# Altium schematic symbol library EMG_DRL_Controlled.SchLib: 231 symbols (part 2 of 4)
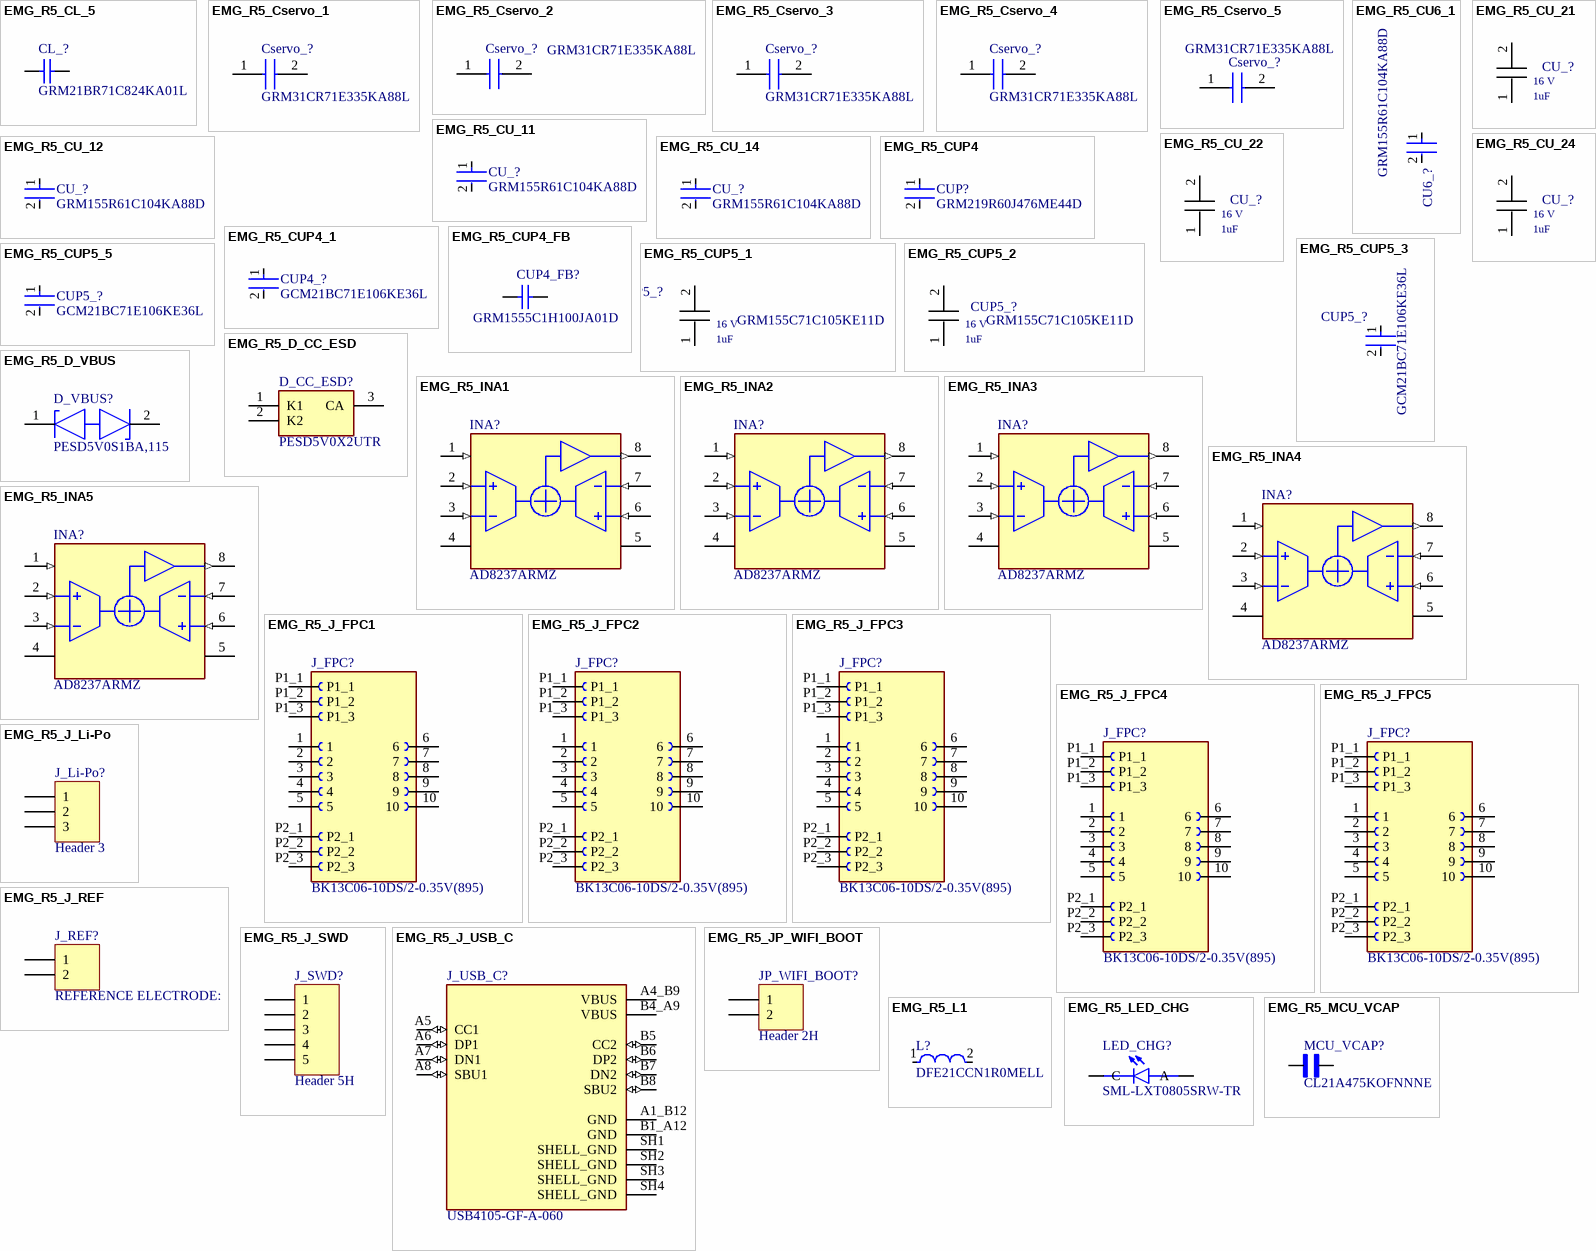
[diagram p6: symbols EMG_R5_CL_5 to EMG_R5_MCU_VCAP]

## EMG_R5_Cservo_3
designator Cservo_?, comment GRM31CR71E335KA88L
Capacitor; Manufacturer_Name: Murata Electronics; Manufacturer: Murata; Controlled Revision: R5 2026-09-16; project-local frozen symbol/footprint; Capacitance: 3.3 uF; Voltage Rating: 25 V; Dielectric: X7R; Tolerance: +/-10%; Datasheet Link: https://search.murata.co.jp/Ceramy/image/img/A01X/G101/ENG/GRM31CR71E335KA88-01.pdf; Height: 1.6 +/-0.2 mm; Manufacturer_Part_Number: GRM31CR71E335KA88L; Mouser Part Number: 81-GRM31CR71E335KA8L; Mouser Price/Stock: https://www.mouser.co.uk/ProductDetail/Murata-Electronics/GRM31CR71E335KA88L?qs=O9nxk9bDVAjJxWOahKXrZA%3D%3D; Arrow Part Number: GRM31CR71E335KA88L; Arrow Price/Stock: https://www.arrow.com/en/products/grm31cr71e335ka88l/murata-manufacturing?region=europe; Manufacturer Part Number: GRM31CR71E335KA88L; Package: 1206 / 3216 metric
footprint GRM31x
pins: 1, 2

## EMG_R5_Cservo_4
designator Cservo_?, comment GRM31CR71E335KA88L
Capacitor; Manufacturer_Name: Murata Electronics; Manufacturer: Murata; Controlled Revision: R5 2026-09-16; project-local frozen symbol/footprint; Capacitance: 3.3 uF; Voltage Rating: 25 V; Dielectric: X7R; Tolerance: +/-10%; Datasheet Link: https://search.murata.co.jp/Ceramy/image/img/A01X/G101/ENG/GRM31CR71E335KA88-01.pdf; Height: 1.6 +/-0.2 mm; Manufacturer_Part_Number: GRM31CR71E335KA88L; Mouser Part Number: 81-GRM31CR71E335KA8L; Mouser Price/Stock: https://www.mouser.co.uk/ProductDetail/Murata-Electronics/GRM31CR71E335KA88L?qs=O9nxk9bDVAjJxWOahKXrZA%3D%3D; Arrow Part Number: GRM31CR71E335KA88L; Arrow Price/Stock: https://www.arrow.com/en/products/grm31cr71e335ka88l/murata-manufacturing?region=europe; Manufacturer Part Number: GRM31CR71E335KA88L; Package: 1206 / 3216 metric
footprint GRM31x
pins: 1, 2

## EMG_R5_Cservo_5
designator Cservo_?, comment GRM31CR71E335KA88L
Capacitor; Manufacturer_Name: Murata Electronics; Manufacturer: Murata; Controlled Revision: R5 2026-09-16; project-local frozen symbol/footprint; Capacitance: 3.3 uF; Voltage Rating: 25 V; Dielectric: X7R; Tolerance: +/-10%; Datasheet Link: https://search.murata.co.jp/Ceramy/image/img/A01X/G101/ENG/GRM31CR71E335KA88-01.pdf; Height: 1.6 +/-0.2 mm; Manufacturer_Part_Number: GRM31CR71E335KA88L; Mouser Part Number: 81-GRM31CR71E335KA8L; Mouser Price/Stock: https://www.mouser.co.uk/ProductDetail/Murata-Electronics/GRM31CR71E335KA88L?qs=O9nxk9bDVAjJxWOahKXrZA%3D%3D; Arrow Part Number: GRM31CR71E335KA88L; Arrow Price/Stock: https://www.arrow.com/en/products/grm31cr71e335ka88l/murata-manufacturing?region=europe; Manufacturer Part Number: GRM31CR71E335KA88L; Package: 1206 / 3216 metric
footprint GRM31x
pins: 1, 2

## EMG_R5_CU6_1
designator CU6_?, comment GRM155R61C104KA88D
CAP CER 0.1UF 16V X5R 0402; Tolerance: 10%; Capacitance: 100nF; Controlled Revision: R5 2026-09-16; project-local frozen symbol/footprint; Size: 0.5mm; Case Code (Imperial): 0402; Voltage: 16V; REACH SVHC: No SVHC; Packaging: Tape and Reel; Case/Package: 0402; Package Quantity: 1; Max Operating Temperature: 85°C; Voltage Rating (DC): 16V; Min Operating Temperature: -55°C; Construction: Flat; Mount: Surface Mount; Voltage Rating: 16V; Thickness: 0.022inch; Depth: 0.5mm; Termination: SMD/SMT; Length: 1mm; Height: 0.5mm; Series: GRM; Radiation Hardening: No; Width: 0.02inch; RoHS Compliant: Yes; Lead Free: Lead Free; Case Code (Metric): 1005; Dielectric: X5R
footprint FP-GRM155-0_05-IPC_C
pins: 1, 2

## EMG_R5_CU_11
designator CU_?, comment GRM155R61C104KA88D
CAP CER 0.1UF 16V X5R 0402; Tolerance: 10%; Capacitance: 100nF; Controlled Revision: R5 2026-09-16; project-local frozen symbol/footprint; Size: 0.5mm; Case Code (Imperial): 0402; Voltage: 16V; REACH SVHC: No SVHC; Packaging: Tape and Reel; Case/Package: 0402; Package Quantity: 1; Max Operating Temperature: 85°C; Voltage Rating (DC): 16V; Min Operating Temperature: -55°C; Construction: Flat; Mount: Surface Mount; Voltage Rating: 16V; Thickness: 0.022inch; Depth: 0.5mm; Termination: SMD/SMT; Length: 1mm; Height: 0.5mm; Series: GRM; Radiation Hardening: No; Width: 0.02inch; RoHS Compliant: Yes; Lead Free: Lead Free; Case Code (Metric): 1005; Dielectric: X5R
footprint FP-GRM155-0_05-IPC_C
pins: 1, 2

## EMG_R5_CU_12
designator CU_?, comment GRM155R61C104KA88D
CAP CER 0.1UF 16V X5R 0402; Tolerance: 10%; Capacitance: 100nF; Controlled Revision: R5 2026-09-16; project-local frozen symbol/footprint; Size: 0.5mm; Case Code (Imperial): 0402; Voltage: 16V; REACH SVHC: No SVHC; Packaging: Tape and Reel; Case/Package: 0402; Package Quantity: 1; Max Operating Temperature: 85°C; Voltage Rating (DC): 16V; Min Operating Temperature: -55°C; Construction: Flat; Mount: Surface Mount; Voltage Rating: 16V; Thickness: 0.022inch; Depth: 0.5mm; Termination: SMD/SMT; Length: 1mm; Height: 0.5mm; Series: GRM; Radiation Hardening: No; Width: 0.02inch; RoHS Compliant: Yes; Lead Free: Lead Free; Case Code (Metric): 1005; Dielectric: X5R
footprint FP-GRM155-0_05-IPC_C
pins: 1, 2

## EMG_R5_CU_14
designator CU_?, comment GRM155R61C104KA88D
CAP CER 0.1UF 16V X5R 0402; Tolerance: 10%; Capacitance: 100nF; Controlled Revision: R5 2026-09-16; project-local frozen symbol/footprint; Size: 0.5mm; Case Code (Imperial): 0402; Voltage: 16V; REACH SVHC: No SVHC; Packaging: Tape and Reel; Case/Package: 0402; Package Quantity: 1; Max Operating Temperature: 85°C; Voltage Rating (DC): 16V; Min Operating Temperature: -55°C; Construction: Flat; Mount: Surface Mount; Voltage Rating: 16V; Thickness: 0.022inch; Depth: 0.5mm; Termination: SMD/SMT; Length: 1mm; Height: 0.5mm; Series: GRM; Radiation Hardening: No; Width: 0.02inch; RoHS Compliant: Yes; Lead Free: Lead Free; Case Code (Metric): 1005; Dielectric: X5R
footprint FP-GRM155-0_05-IPC_C
pins: 1, 2

## EMG_R5_CU_21
designator CU_?, comment MURATA_GRM155C71C105KE11D  (value not drawn)
Murata GRM155C71C105KE11D: 1 uF 16 V X7S +/-10%, 0402/1005 metric; Value: 1 uF; Controlled Revision: R5 2026-09-16; project-local frozen symbol/footprint; Voltage Rating: 16 V; SnapEDA_Link: https://www.snapeda.com/parts/GRM155C71C105KE11D/Murata/view-part/?ref=snap; Package: 0402 / 1005 metric; MF: Murata; MP: GRM155C71C105KE11D; Check_prices: https://www.snapeda.com/parts/GRM155C71C105KE11D/Murata/view-part/?ref=eda; Manufacturer: Murata; Manufacturer Part Number: GRM155C71C105KE11D; Capacitance: 1 uF; Dielectric: X7S; Tolerance: +/-10%
footprint *MURATA_GRM155C71C105KE11D_0
pins: 1, 2
text: 1uF

## EMG_R5_CU_22
designator CU_?, comment MURATA_GRM155C71C105KE11D  (value not drawn)
Murata GRM155C71C105KE11D: 1 uF 16 V X7S +/-10%, 0402/1005 metric; Value: 1 uF; Controlled Revision: R5 2026-09-16; project-local frozen symbol/footprint; Voltage Rating: 16 V; SnapEDA_Link: https://www.snapeda.com/parts/GRM155C71C105KE11D/Murata/view-part/?ref=snap; Package: 0402 / 1005 metric; MF: Murata; MP: GRM155C71C105KE11D; Check_prices: https://www.snapeda.com/parts/GRM155C71C105KE11D/Murata/view-part/?ref=eda; Manufacturer: Murata; Manufacturer Part Number: GRM155C71C105KE11D; Capacitance: 1 uF; Dielectric: X7S; Tolerance: +/-10%
footprint *MURATA_GRM155C71C105KE11D_0
pins: 1, 2
text: 1uF

## EMG_R5_CU_24
designator CU_?, comment MURATA_GRM155C71C105KE11D  (value not drawn)
Murata GRM155C71C105KE11D: 1 uF 16 V X7S +/-10%, 0402/1005 metric; Value: 1 uF; Controlled Revision: R5 2026-09-16; project-local frozen symbol/footprint; Voltage Rating: 16 V; SnapEDA_Link: https://www.snapeda.com/parts/GRM155C71C105KE11D/Murata/view-part/?ref=snap; Package: 0402 / 1005 metric; MF: Murata; MP: GRM155C71C105KE11D; Check_prices: https://www.snapeda.com/parts/GRM155C71C105KE11D/Murata/view-part/?ref=eda; Manufacturer: Murata; Manufacturer Part Number: GRM155C71C105KE11D; Capacitance: 1 uF; Dielectric: X7S; Tolerance: +/-10%
footprint *MURATA_GRM155C71C105KE11D_0
pins: 1, 2
text: 1uF

## EMG_R5_CUP4
designator CUP?, comment GRM219R60J476ME44D
Chip Multilayer Ceramic Capacitors for General Purpose, 0805, 47uF, X5R, 15%, 20%, 6.3V; Controlled Revision: R5 2026-09-16; project-local frozen symbol/footprint; Case Code (Metric): 2012; Voltage Rating: 6.3V; Case Code (Imperial): 0805; Max Operating Temperature: 85°C; Width: 0.049inch; Length: 0.079inch; Min Operating Temperature: -55°C; Mount: Surface Mount; Packaging: Tape and Reel; Case/Package: 0805; Thickness: 0.037inch; Capacitance: 47uF; Tolerance: 20%
footprint FP-GRM219-0_2-0_1-IPC_A
pins: 1, 2

## EMG_R5_CUP4_1
designator CUP4_?, comment GCM21BC71E106KE36L
10 µF ±10% 25V Ceramic Capacitor X7S 0805 (2012 Metric); Controlled Revision: R5 2026-09-16; project-local frozen symbol/footprint
footprint FP-GCM21B-0_2-e0_2_0_7-MFG
pins: 1, 2

## EMG_R5_CUP4_FB
designator CUP4_FB?, comment GRM1555C1H100JA01D
Manufacturer: Murata; Controlled Revision: R5 2026-09-16; project-local frozen symbol/footprint; Part Number: GRM1555C1H100JA01D
footprint CAPC1005X55X25LL05T10 (Chip Capacitor, 2-Leads, Body 1.00x0.50mm, IPC High Density)
pins: 1, 2
1 alternate drawing of the same symbol

## EMG_R5_CUP5_1
designator CUP5_?, comment GRM155C71C105KE11D
Murata GRM155C71C105KE11D: 1 uF 16 V X7S +/-10%, 0402/1005 metric; Value: 1 uF; Controlled Revision: R5 2026-09-16; project-local frozen symbol/footprint; Voltage Rating: 16 V; SnapEDA_Link: https://www.snapeda.com/parts/GRM155C71C105KE11D/Murata/view-part/?ref=snap; Package: 0402 / 1005 metric; MF: Murata; MP: GRM155C71C105KE11D; Check_prices: https://www.snapeda.com/parts/GRM155C71C105KE11D/Murata/view-part/?ref=eda; Manufacturer: Murata; Manufacturer Part Number: GRM155C71C105KE11D; Capacitance: 1 uF; Dielectric: X7S; Tolerance: +/-10%
footprint *MURATA_GRM155C71C105KE11D_0
pins: 1, 2
text: 1uF

## EMG_R5_CUP5_2
designator CUP5_?, comment GRM155C71C105KE11D
Murata GRM155C71C105KE11D: 1 uF 16 V X7S +/-10%, 0402/1005 metric; Value: 1 uF; Controlled Revision: R5 2026-09-16; project-local frozen symbol/footprint; Voltage Rating: 16 V; SnapEDA_Link: https://www.snapeda.com/parts/GRM155C71C105KE11D/Murata/view-part/?ref=snap; Package: 0402 / 1005 metric; MF: Murata; MP: GRM155C71C105KE11D; Check_prices: https://www.snapeda.com/parts/GRM155C71C105KE11D/Murata/view-part/?ref=eda; Manufacturer: Murata; Manufacturer Part Number: GRM155C71C105KE11D; Capacitance: 1 uF; Dielectric: X7S; Tolerance: +/-10%
footprint *MURATA_GRM155C71C105KE11D_0
pins: 1, 2
text: 1uF

## EMG_R5_CUP5_3
designator CUP5_?, comment GCM21BC71E106KE36L
10 µF ±10% 25V Ceramic Capacitor X7S 0805 (2012 Metric); Controlled Revision: R5 2026-09-16; project-local frozen symbol/footprint
footprint FP-GCM21B-0_2-e0_2_0_7-MFG
pins: 1, 2

## EMG_R5_CUP5_5
designator CUP5_?, comment GCM21BC71E106KE36L
10 µF ±10% 25V Ceramic Capacitor X7S 0805 (2012 Metric); Controlled Revision: R5 2026-09-16; project-local frozen symbol/footprint
footprint FP-GCM21B-0_2-e0_2_0_7-MFG
pins: 1, 2

## EMG_R5_D_CC_ESD
designator D_CC_ESD?, comment PESD5V0X2UTR
TVS Diode (Uni-directional); Manufacturer_Name: Nexperia; Controlled Revision: R5 2026-09-16; project-local frozen symbol/footprint; Datasheet Link: https://assets.nexperia.com/documents/data-sheet/PESD5V0X2UT.pdf; Height: 1mm; Manufacturer_Part_Number: PESD5V0X2UTR
footprint SOT95P230X100-3N
pins: 1 K1, 2 K2, 3 CA

## EMG_R5_D_VBUS
designator D_VBUS?, comment PESD5V0S1BA,115
TVS DIODE 5V 14V SOD323; Controlled Revision: R5 2026-09-16; project-local frozen symbol/footprint
footprint FP-SOD323-CA-MFG
pins: 1 K1, 2 K2

## EMG_R5_INA1
designator INA?, comment AD8237ARMZ
Micropower, Zero Drift, True Rail-to-Rail Instrumentation Amplifier; MF: Analog Devices; EMG Library Revision: R3 2026-09-12; EMG_AD8237_R3_MSOP8; numeric pad IDs 1-8; Controlled Revision: R5 2026-09-16; project-local frozen symbol/footprint; Package: MSOP-8 Analog Devices; Price: None; Check_prices: https://www.snapeda.com/parts/AD8237ARMZ/Analog+Devices/view-part/?ref=eda; Value: *; SnapEDA_Link: https://www.snapeda.com/parts/AD8237ARMZ/Analog+Devices/view-part/?ref=snap; MP: AD8237ARMZ; Availability: In Stock; Purchase-URL: https://pricing.snapeda.com/search?q=AD8237ARMZ&ref=eda
footprint EMG_AD8237_R3_MSOP8 (R3 numeric pins 1-8; frozen project-local footprint; source geometry preserved)
pins: 1 BW (in), 2 +IN (in), 3 -IN (in), 4 -VS (power), 5 +VS (power), 6 REF (in), 7 FB (in), 8 VOUT (out)

## EMG_R5_INA2
designator INA?, comment AD8237ARMZ
Micropower, Zero Drift, True Rail-to-Rail Instrumentation Amplifier; MF: Analog Devices; EMG Library Revision: R3 2026-09-12; EMG_AD8237_R3_MSOP8; numeric pad IDs 1-8; Controlled Revision: R5 2026-09-16; project-local frozen symbol/footprint; Package: MSOP-8 Analog Devices; Price: None; Check_prices: https://www.snapeda.com/parts/AD8237ARMZ/Analog+Devices/view-part/?ref=eda; Value: *; SnapEDA_Link: https://www.snapeda.com/parts/AD8237ARMZ/Analog+Devices/view-part/?ref=snap; MP: AD8237ARMZ; Availability: In Stock; Purchase-URL: https://pricing.snapeda.com/search?q=AD8237ARMZ&ref=eda
footprint EMG_AD8237_R3_MSOP8 (R3 numeric pins 1-8; frozen project-local footprint; source geometry preserved)
pins: 1 BW (in), 2 +IN (in), 3 -IN (in), 4 -VS (power), 5 +VS (power), 6 REF (in), 7 FB (in), 8 VOUT (out)

## EMG_R5_INA3
designator INA?, comment AD8237ARMZ
Micropower, Zero Drift, True Rail-to-Rail Instrumentation Amplifier; MF: Analog Devices; EMG Library Revision: R3 2026-09-12; EMG_AD8237_R3_MSOP8; numeric pad IDs 1-8; Controlled Revision: R5 2026-09-16; project-local frozen symbol/footprint; Package: MSOP-8 Analog Devices; Price: None; Check_prices: https://www.snapeda.com/parts/AD8237ARMZ/Analog+Devices/view-part/?ref=eda; Value: *; SnapEDA_Link: https://www.snapeda.com/parts/AD8237ARMZ/Analog+Devices/view-part/?ref=snap; MP: AD8237ARMZ; Availability: In Stock; Purchase-URL: https://pricing.snapeda.com/search?q=AD8237ARMZ&ref=eda
footprint EMG_AD8237_R3_MSOP8 (R3 numeric pins 1-8; frozen project-local footprint; source geometry preserved)
pins: 1 BW (in), 2 +IN (in), 3 -IN (in), 4 -VS (power), 5 +VS (power), 6 REF (in), 7 FB (in), 8 VOUT (out)

## EMG_R5_INA4
designator INA?, comment AD8237ARMZ
Micropower, Zero Drift, True Rail-to-Rail Instrumentation Amplifier; MF: Analog Devices; EMG Library Revision: R3 2026-09-12; EMG_AD8237_R3_MSOP8; numeric pad IDs 1-8; Controlled Revision: R5 2026-09-16; project-local frozen symbol/footprint; Package: MSOP-8 Analog Devices; Price: None; Check_prices: https://www.snapeda.com/parts/AD8237ARMZ/Analog+Devices/view-part/?ref=eda; Value: *; SnapEDA_Link: https://www.snapeda.com/parts/AD8237ARMZ/Analog+Devices/view-part/?ref=snap; MP: AD8237ARMZ; Availability: In Stock; Purchase-URL: https://pricing.snapeda.com/search?q=AD8237ARMZ&ref=eda
footprint EMG_AD8237_R3_MSOP8 (R3 numeric pins 1-8; frozen project-local footprint; source geometry preserved)
pins: 1 BW (in), 2 +IN (in), 3 -IN (in), 4 -VS (power), 5 +VS (power), 6 REF (in), 7 FB (in), 8 VOUT (out)

## EMG_R5_INA5
designator INA?, comment AD8237ARMZ
Micropower, Zero Drift, True Rail-to-Rail Instrumentation Amplifier; MF: Analog Devices; EMG Library Revision: R3 2026-09-12; EMG_AD8237_R3_MSOP8; numeric pad IDs 1-8; Controlled Revision: R5 2026-09-16; project-local frozen symbol/footprint; Package: MSOP-8 Analog Devices; Price: None; Check_prices: https://www.snapeda.com/parts/AD8237ARMZ/Analog+Devices/view-part/?ref=eda; Value: *; SnapEDA_Link: https://www.snapeda.com/parts/AD8237ARMZ/Analog+Devices/view-part/?ref=snap; MP: AD8237ARMZ; Availability: In Stock; Purchase-URL: https://pricing.snapeda.com/search?q=AD8237ARMZ&ref=eda
footprint EMG_AD8237_R3_MSOP8 (R3 numeric pins 1-8; frozen project-local footprint; source geometry preserved)
pins: 1 BW (in), 2 +IN (in), 3 -IN (in), 4 -VS (power), 5 +VS (power), 6 REF (in), 7 FB (in), 8 VOUT (out)

## EMG_R5_J_FPC1
designator J_FPC?, comment BK13C06-10DS/2-0.35V(895)
10 Position Connector Receptacle, Center Strip Contacts Surface Mount Gold; MF: Hirose Electric Co Ltd; Controlled Revision: R5 2026-09-16; project-local frozen symbol/footprint; SnapEDA_Link: https://www.snapeda.com/parts/BK13C06-10DS/2-0.35V(895)/Hirose+Electric+Co+Ltd/view-part/?ref=snap; Package: None; Value: *; MP: BK13C06-10DS/2-0.35V(895); Check_prices: https://www.snapeda.com/parts/BK13C06-10DS/2-0.35V(895)/Hirose+Electric+Co+Ltd/view-part/?ref=eda
footprint HIROSE_BK13C06-10DS/2-0.35V(895)
pins: 1, 2, 3, 4, 5, 6, 7, 8, 9, 10, P1_1 (power), P1_2 (power), P1_3 (power), P2_1 (power), P2_2 (power), P2_3 (power)

## EMG_R5_J_FPC2
designator J_FPC?, comment BK13C06-10DS/2-0.35V(895)
10 Position Connector Receptacle, Center Strip Contacts Surface Mount Gold; MF: Hirose Electric Co Ltd; Controlled Revision: R5 2026-09-16; project-local frozen symbol/footprint; SnapEDA_Link: https://www.snapeda.com/parts/BK13C06-10DS/2-0.35V(895)/Hirose+Electric+Co+Ltd/view-part/?ref=snap; Package: None; Value: *; MP: BK13C06-10DS/2-0.35V(895); Check_prices: https://www.snapeda.com/parts/BK13C06-10DS/2-0.35V(895)/Hirose+Electric+Co+Ltd/view-part/?ref=eda
footprint HIROSE_BK13C06-10DS/2-0.35V(895)
pins: 1, 2, 3, 4, 5, 6, 7, 8, 9, 10, P1_1 (power), P1_2 (power), P1_3 (power), P2_1 (power), P2_2 (power), P2_3 (power)

## EMG_R5_J_FPC3
designator J_FPC?, comment BK13C06-10DS/2-0.35V(895)
10 Position Connector Receptacle, Center Strip Contacts Surface Mount Gold; MF: Hirose Electric Co Ltd; Controlled Revision: R5 2026-09-16; project-local frozen symbol/footprint; SnapEDA_Link: https://www.snapeda.com/parts/BK13C06-10DS/2-0.35V(895)/Hirose+Electric+Co+Ltd/view-part/?ref=snap; Package: None; Value: *; MP: BK13C06-10DS/2-0.35V(895); Check_prices: https://www.snapeda.com/parts/BK13C06-10DS/2-0.35V(895)/Hirose+Electric+Co+Ltd/view-part/?ref=eda
footprint HIROSE_BK13C06-10DS/2-0.35V(895)
pins: 1, 2, 3, 4, 5, 6, 7, 8, 9, 10, P1_1 (power), P1_2 (power), P1_3 (power), P2_1 (power), P2_2 (power), P2_3 (power)

## EMG_R5_J_FPC4
designator J_FPC?, comment BK13C06-10DS/2-0.35V(895)
10 Position Connector Receptacle, Center Strip Contacts Surface Mount Gold; MF: Hirose Electric Co Ltd; Controlled Revision: R5 2026-09-16; project-local frozen symbol/footprint; SnapEDA_Link: https://www.snapeda.com/parts/BK13C06-10DS/2-0.35V(895)/Hirose+Electric+Co+Ltd/view-part/?ref=snap; Package: None; Value: *; MP: BK13C06-10DS/2-0.35V(895); Check_prices: https://www.snapeda.com/parts/BK13C06-10DS/2-0.35V(895)/Hirose+Electric+Co+Ltd/view-part/?ref=eda
footprint HIROSE_BK13C06-10DS/2-0.35V(895)
pins: 1, 2, 3, 4, 5, 6, 7, 8, 9, 10, P1_1 (power), P1_2 (power), P1_3 (power), P2_1 (power), P2_2 (power), P2_3 (power)

## EMG_R5_J_FPC5
designator J_FPC?, comment BK13C06-10DS/2-0.35V(895)
10 Position Connector Receptacle, Center Strip Contacts Surface Mount Gold; MF: Hirose Electric Co Ltd; Controlled Revision: R5 2026-09-16; project-local frozen symbol/footprint; SnapEDA_Link: https://www.snapeda.com/parts/BK13C06-10DS/2-0.35V(895)/Hirose+Electric+Co+Ltd/view-part/?ref=snap; Package: None; Value: *; MP: BK13C06-10DS/2-0.35V(895); Check_prices: https://www.snapeda.com/parts/BK13C06-10DS/2-0.35V(895)/Hirose+Electric+Co+Ltd/view-part/?ref=eda
footprint HIROSE_BK13C06-10DS/2-0.35V(895)
pins: 1, 2, 3, 4, 5, 6, 7, 8, 9, 10, P1_1 (power), P1_2 (power), P1_3 (power), P2_1 (power), P2_2 (power), P2_3 (power)

## EMG_R5_J_Li-Po
designator J_Li-Po?, comment Header 3
Header, 3-Pin; Production Release Blocker: Freeze exact orderable manufacturer/MPN, package/mating/contact definition before production; do not infer from generic symbol.; Controlled Revision: R5 2026-09-16; project-local frozen symbol/footprint; LatestRevisionDate: 17-Jul-2002; LatestRevisionNote: Re-released for DXP Platform.; Publisher: Altium Limited
footprint HDR1X3 (Connector; Header; 3 Position)
signal-integrity model Connector
pins: 1, 2, 3

## EMG_R5_J_REF
designator J_REF?, comment REFERENCE ELECTRODE:
Header, 2-Pin; Controlled Revision: R5 2026-09-16; project-local frozen symbol/footprint; Production Release Blocker: Freeze exact orderable manufacturer/MPN, package/mating/contact definition before production; do not infer from generic symbol.; LatestRevisionDate: 17-Jul-2002; LatestRevisionNote: Re-released for DXP Platform.; Publisher: Altium Limited
footprint HDR1X2 (Connector; Header; 2 Position)
signal-integrity model Connector
pins: 1, 2

## EMG_R5_J_SWD
designator J_SWD?, comment Header 5H
Header, 5-Pin, Right Angle; Controlled Revision: R5 2026-09-16; project-local frozen symbol/footprint; Production Release Blocker: Freeze exact orderable manufacturer/MPN, package/mating/contact definition before production; do not infer from generic symbol.; LatestRevisionDate: 17-Jul-2002; LatestRevisionNote: Re-released for DXP Platform.; Publisher: Altium Limited
footprint HDR1X5H (Connector; Header; 5 Position; Right Angle)
signal-integrity model Connector
pins: 1, 2, 3, 4, 5

## EMG_R5_J_USB_C
designator J_USB_C?, comment USB4105-GF-A-060
USB-C (USB TYPE-C) USB 2.0 Receptacle Connector 24 (16+8 Dummy) Position Surface Mount, Right Angle; Through Hole; MF: Global Connector Technology; MP: USB4105GFA060; Controlled Revision: R5 2026-09-16; project-local frozen symbol/footprint; SnapEDA_Link: https://www.snapeda.com/parts/USB4105GFA060/Global+Connector+Technology/view-part/?ref=snap; Package: None; Value: *; Check_prices: https://www.snapeda.com/parts/USB4105GFA060/Global+Connector+Technology/view-part/?ref=eda
footprint GCT_USB4105-GF-A-060
pins: A1_B12 GND (power), A4_B9 VBUS (power), A5 CC1 (io), A6 DP1 (io), A7 DN1 (io), A8 SBU1 (io), B1_A12 GND (power), B4_A9 VBUS (power), B5 CC2 (io), B6 DP2 (io), B7 DN2 (io), B8 SBU2 (io), SH1 SHELL_GND (power), SH2 SHELL_GND (power), SH3 SHELL_GND (power), SH4 SHELL_GND (power)

## EMG_R5_JP_WIFI_BOOT
designator JP_WIFI_BOOT?, comment Header 2H
Header, 2-Pin, Right Angle; Controlled Revision: R5 2026-09-16; project-local frozen symbol/footprint; Production Release Blocker: Freeze exact orderable manufacturer/MPN, package/mating/contact definition before production; do not infer from generic symbol.; LatestRevisionDate: 17-Jul-2002; LatestRevisionNote: Re-released for DXP Platform.; Publisher: Altium Limited
footprint HDR1X2H (Connector; Header; 2 Position; Right Angle)
signal-integrity model Connector
pins: 1, 2

## EMG_R5_L1
designator L?, comment DFE21CCN1R0MELL
FIXED IND 1.0UH 3300MA NONAUTO; Controlled Revision: R5 2026-09-16; project-local frozen symbol/footprint
footprint FP-DFE21CC_EL-MFG
pins: 1, 2

## EMG_R5_LED_CHG
designator LED_CHG?, comment SML-LXT0805SRW-TR
Red - LED Indication - Discrete 1.8V 0805 (2012 Metric); MF: Lumex Opto/Components; Controlled Revision: R5 2026-09-16; project-local frozen symbol/footprint; SnapEDA_Link: https://www.snapeda.com/parts/SML-LXT0805SRW-TR/Lumex/view-part/?ref=snap; Package: 0805 Lumex; Value: *; MP: SML-LXT0805SRW-TR; Check_prices: https://www.snapeda.com/parts/SML-LXT0805SRW-TR/Lumex/view-part/?ref=eda
footprint LEDC2012X120N
pins: A, C

## EMG_R5_MCU_VCAP
designator MCU_VCAP?, comment CL21A475KOFNNNE
4.7 ÂµF Â±10% 16V Ceramic Capacitor X5R 0805 (2012 Metric); MF: Samsung; Controlled Revision: R5 2026-09-16; project-local frozen symbol/footprint; SnapEDA_Link: https://www.snapeda.com/parts/CL21A475KOFNNNE/Samsung/view-part/?ref=snap; Package: SMD-2 Samsung; Value: *; MP: CL21A475KOFNNNE; Check_prices: https://www.snapeda.com/parts/CL21A475KOFNNNE/Samsung/view-part/?ref=eda
footprint CAPC2012X135N
pins: 1, 2

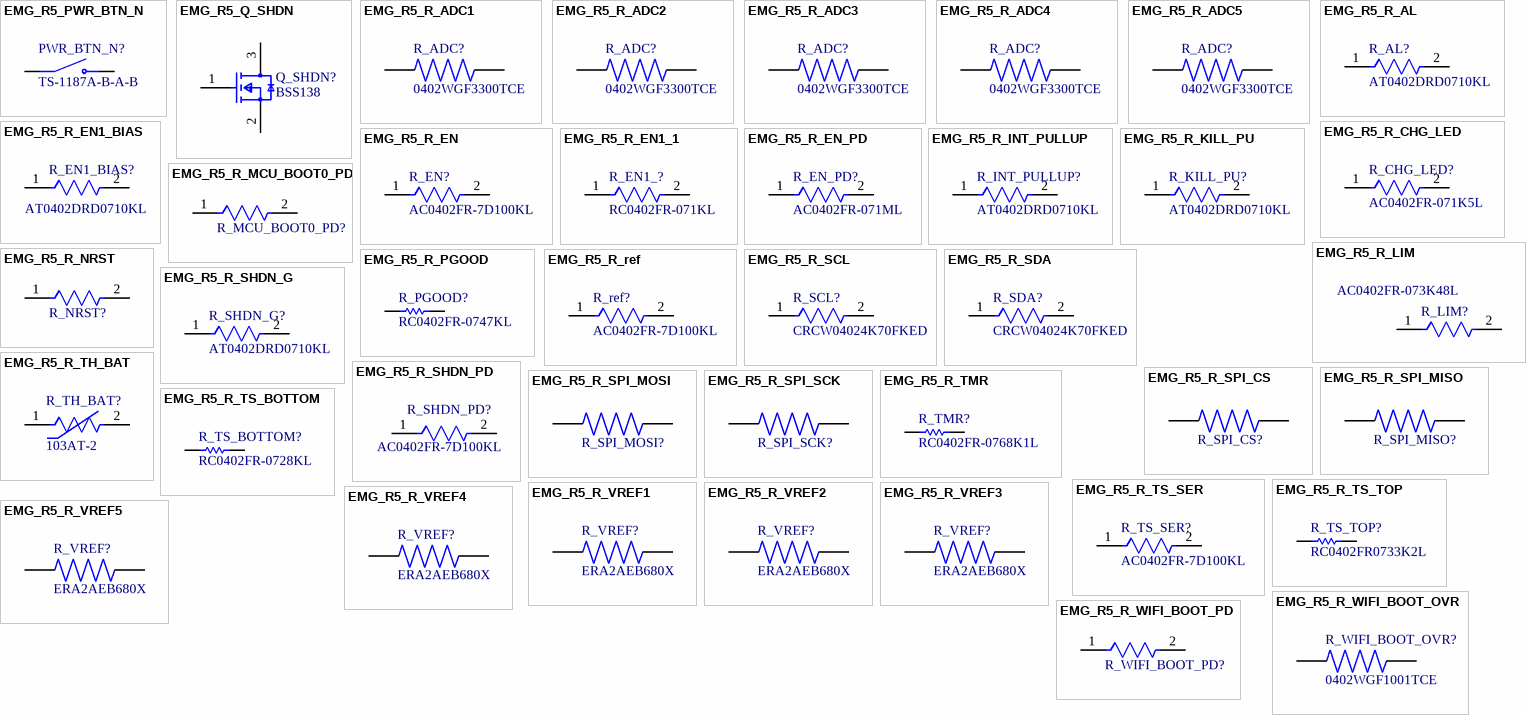
[diagram p3: symbols EMG_R5_PWR_BTN_N to EMG_R5_R_WIFI_BOOT_PD]

## EMG_R5_PWR_BTN_N
designator PWR_BTN_N?, comment TS-1187A-B-A-B
SPST 50mA @ 12VDC Top Actuated Round Button 160gf SMD Tactile Switches RoHS; Controlled Revision: R5 2026-09-16; project-local frozen symbol/footprint; Production Release Blocker: Freeze exact orderable manufacturer/MPN, package/mating/contact definition before production; do not infer from generic symbol.; MP: TS-1187A-B-A-B; Value: *; Price: None; Package: None; Availability: Unavailable
footprint SW_TS-1187A-B-A-B
pins: A COM, B COM, C NO, D NO

## EMG_R5_Q_SHDN
designator Q_SHDN?, comment BSS138
MOSFET N-CH 50V 220MA SOT-23; Turn-Off Delay Time: 20ns; Element Configuration: Single; Rds On Max: 3.5R; Gate to Source Voltage (Vgs): 20V; Threshold Voltage: 1.3V; Number of Elements: 1; Power Dissipation: 360mW; Rise Time: 9ns; Turn-On Delay Time: 2.5ns; Input Capacitance: 27pF; On-State Resistance: 6R; Controlled Revision: R5 2026-09-16; project-local frozen symbol/footprint; Production Release Blocker: Freeze exact orderable manufacturer/MPN, package/mating/contact definition before production; do not infer from generic symbol.; Lead Free: Lead Free; Length: 2.92mm; Width: 1.3mm; Drain to Source Breakdown Voltage: 50V; Min Operating Temperature: -55°C; REACH SVHC: No SVHC; Packaging: Tape and Reel; Radiation Hardening: No; Height: 0.93mm; Drain to Source Voltage (Vdss): 50V; Current Rating: 220mA; Voltage Rating (DC): 50V; Weight: 0.03g; Continuous Drain Current (ID): 220mA; Number of Pins: 3; Nominal Vgs: 1.3V; Max Power Dissipation: 360mW; Fall Time: 9ns; Drain to Source Resistance: 3.5R; Contact Plating: Tin; Case/Package: SOT-23; Package Quantity: 1; Dual Supply Voltage: 50V; Mount: Surface Mount; Termination: SMD/SMT; Max Operating Temperature: 150°C
footprint FP-318-08-IPC_B
pins: 1 G, 2 S, 3 D

## EMG_R5_R_ADC1
designator R_ADC?, comment 0402WGF3300TCE
330 Ohm 1/16W Thick Film Resistor 0402 Chip - Surface Mount; MF: Uni-Royal; Controlled Revision: R5 2026-09-16; project-local frozen symbol/footprint; SnapEDA_Link: https://www.snapeda.com/parts/0402WGF3300TCE/Uni-Royal/view-part/?ref=snap; Package: 0402-2 ROYAL; Value: *; MP: 0402WGF3300TCE; Check_prices: https://www.snapeda.com/parts/0402WGF3300TCE/Uni-Royal/view-part/?ref=eda
footprint RESC1005X40N
pins: 1, 2

## EMG_R5_R_ADC2
designator R_ADC?, comment 0402WGF3300TCE
330 Ohm 1/16W Thick Film Resistor 0402 Chip - Surface Mount; MF: Uni-Royal; Controlled Revision: R5 2026-09-16; project-local frozen symbol/footprint; SnapEDA_Link: https://www.snapeda.com/parts/0402WGF3300TCE/Uni-Royal/view-part/?ref=snap; Package: 0402-2 ROYAL; Value: *; MP: 0402WGF3300TCE; Check_prices: https://www.snapeda.com/parts/0402WGF3300TCE/Uni-Royal/view-part/?ref=eda
footprint RESC1005X40N
pins: 1, 2

## EMG_R5_R_ADC3
designator R_ADC?, comment 0402WGF3300TCE
330 Ohm 1/16W Thick Film Resistor 0402 Chip - Surface Mount; MF: Uni-Royal; Controlled Revision: R5 2026-09-16; project-local frozen symbol/footprint; SnapEDA_Link: https://www.snapeda.com/parts/0402WGF3300TCE/Uni-Royal/view-part/?ref=snap; Package: 0402-2 ROYAL; Value: *; MP: 0402WGF3300TCE; Check_prices: https://www.snapeda.com/parts/0402WGF3300TCE/Uni-Royal/view-part/?ref=eda
footprint RESC1005X40N
pins: 1, 2

## EMG_R5_R_ADC4
designator R_ADC?, comment 0402WGF3300TCE
330 Ohm 1/16W Thick Film Resistor 0402 Chip - Surface Mount; MF: Uni-Royal; Controlled Revision: R5 2026-09-16; project-local frozen symbol/footprint; SnapEDA_Link: https://www.snapeda.com/parts/0402WGF3300TCE/Uni-Royal/view-part/?ref=snap; Package: 0402-2 ROYAL; Value: *; MP: 0402WGF3300TCE; Check_prices: https://www.snapeda.com/parts/0402WGF3300TCE/Uni-Royal/view-part/?ref=eda
footprint RESC1005X40N
pins: 1, 2

## EMG_R5_R_ADC5
designator R_ADC?, comment 0402WGF3300TCE
330 Ohm 1/16W Thick Film Resistor 0402 Chip - Surface Mount; MF: Uni-Royal; Controlled Revision: R5 2026-09-16; project-local frozen symbol/footprint; SnapEDA_Link: https://www.snapeda.com/parts/0402WGF3300TCE/Uni-Royal/view-part/?ref=snap; Package: 0402-2 ROYAL; Value: *; MP: 0402WGF3300TCE; Check_prices: https://www.snapeda.com/parts/0402WGF3300TCE/Uni-Royal/view-part/?ref=eda
footprint RESC1005X40N
pins: 1, 2

## EMG_R5_R_AL
designator R_AL?, comment AT0402DRD0710KL
Thin Film Chip Resistors Automotive Grade 10kΩ 0.5% 25ppm/°C 0402; Resistance: 10kR; Max Power Dissipation: 63mW; Controlled Revision: R5 2026-09-16; project-local frozen symbol/footprint; Tolerance: 0.5%; Temperature Coefficient: 25ppm/°C; Width: 0.02inch; RoHS Compliant: Yes; Min Operating Temperature: -55°C; Height: 0.014inch; Case Code (Metric): 1005; Ratings: AEC-Q200; Case/Package: 0402; Max Operating Temperature: 155°C; Number of Terminations: 2; Features: Moisture Resistant; Packaging: Cut Tape; Length: 0.039inch; Series: AT; Resistor Type: Thin Film; Case Code (Imperial): 0402
footprint FP-AT0402-IPC_A
pins: 1, 2

## EMG_R5_R_CHG_LED
designator R_CHG_LED?, comment AC0402FR-071K5L
RES 1.5kΩ ±1% 0.063W 0402; Max Power Dissipation: 63mW; Voltage Rating: 50V; Resistance: 1.5kR; Temperature Coefficient: 100ppm/°C; Power Rating: 62.5mW; Controlled Revision: R5 2026-09-16; project-local frozen symbol/footprint; Min Operating Temperature: -55°C; Features: Moisture Resistant; Series: AC; Mount: Surface Mount; Case Code (Metric): 1005; Termination: SMD/SMT; Size Code: 0402; Max Operating Temperature: 155°C; Tolerance: 1%; Resistor Type: Thick Film; Height: 0.015inch; Packaging: Tape and Reel; Length: 0.039inch; Width: 0.5mm; Case Code (Imperial): 0402; Lead Free: Lead Free; Case/Package: 0402; Number of Terminations: 2; RoHS Compliant: Yes
footprint FP-AC0402-MFG
pins: 1, 2

## EMG_R5_R_EN
designator R_EN?, comment AC0402FR-7D100KL
AC0402 100KΩ 0.0625W 1.00%; Manufacturer: Yageo; Automotive Grade: Grade 0; Voltage Rating: 50V; Tolerance: 0.01; Controlled Revision: R5 2026-09-16; project-local frozen symbol/footprint; Resistance: 100KΩ; Automotive: Yes; Device Class L1: Passive Components; Temperature Range High: +155°C; ComponentLink2URL: http://www.yageo.com/documents/recent/PYu-AC_51_RoHS_L_6.pdf; Footprint Url: http://www.yageo.com/exep/pages/download/literatures/PYu-R_Mount_10.pdf; Power Rating: 0.0625W; RoHS: TRUE; Category: Res; Package: AC0402; Octopart: https://octopart.com/ac0402fr-7d100kl-yageo-91024821; Device Class L2: Resistors; Series: AC; Height: 0.37mm; ComponentLink2Description: Datasheet; Lead Free: Yes; Temperature Range Low: -55°C; Value: 100KΩ; Temperature: -55°C to +155°C; Ipc Land Pattern Name: RESC10050X32; Device Class L3: Chip SMD Resistors; Manufacturer Part Number: AC0402FR-7D100KL; Composition: Thick Film
footprint FP-AC0402-MFG
pins: 1, 2

## EMG_R5_R_EN1_1
designator R_EN1_?, comment RC0402FR-071KL
RES 1K OHM 1% 1/16W 0402; Max Power Dissipation: 63mW; Resistance: 1kR; Voltage Rating (DC): 50V; Temperature Coefficient: 100ppm/°C; Power Rating: 62.5mW; Controlled Revision: R5 2026-09-16; project-local frozen symbol/footprint; Technology: THICK FILM; Size Code: 0402; Series: RC; Length: 1mm; Case/Package: 0402; Features: Moisture Resistant; Termination: SMD/SMT; Case Code (Metric): 1005; Reach SVHC Compliant: Yes; Number of Terminations: 2; Tolerance: 1%; Lead Free: Lead Free; Military Standard: Not; Resistor Type: Thick Film; Max Operating Temperature: 155°C; RoHS Compliant: Yes; Construction: Rectangular; Voltage Rating: 50V; Packaging: Tape and Reel; Height: 0.32mm; Number of Pins: 2; Resistance Tolerance: 1%; Case Code (Imperial): 0402; Depth: 0.5mm; Min Operating Temperature: -55°C; Width: 0.5mm
footprint FP-RC0402-0_4-IPC_A
pins: 1, 2

## EMG_R5_R_EN1_BIAS
designator R_EN1_BIAS?, comment AT0402DRD0710KL
Thin Film Chip Resistors Automotive Grade 10kΩ 0.5% 25ppm/°C 0402; Resistance: 10kR; Max Power Dissipation: 63mW; Controlled Revision: R5 2026-09-16; project-local frozen symbol/footprint; Tolerance: 0.5%; Temperature Coefficient: 25ppm/°C; Width: 0.02inch; RoHS Compliant: Yes; Min Operating Temperature: -55°C; Height: 0.014inch; Case Code (Metric): 1005; Ratings: AEC-Q200; Case/Package: 0402; Max Operating Temperature: 155°C; Number of Terminations: 2; Features: Moisture Resistant; Packaging: Cut Tape; Length: 0.039inch; Series: AT; Resistor Type: Thin Film; Case Code (Imperial): 0402
footprint FP-AT0402-IPC_A
pins: 1, 2

## EMG_R5_R_EN_PD
designator R_EN_PD?, comment AC0402FR-071ML
RES 1MΩ ±1% 0.063W 0402; Power Rating: 62.5mW; Max Power Dissipation: 63mW; Temperature Coefficient: 100ppm/°C; Resistance: 1MR; Voltage Rating: 50V; Controlled Revision: R5 2026-09-16; project-local frozen symbol/footprint; Packaging: Tape and Reel; Lead Free: Lead Free; Depth: 0.5mm; Series: AC; Length: 0.039inch; Resistor Type: Thick Film; Termination: SMD/SMT; Military Standard: Not; Case/Package: 0402; Min Operating Temperature: -55°C; Tolerance: 1%; Features: Moisture Resistant; Size Code: 0402; Case Code (Imperial): 0402; Number of Terminations: 2; Width: 0.5mm; Construction: Rectangular; Height: 0.015inch; RoHS Compliant: Yes; Case Code (Metric): 1005; Max Operating Temperature: 155°C
footprint FP-AC0402-IPC_A
pins: 1, 2

## EMG_R5_R_INT_PULLUP
designator R_INT_PULLUP?, comment AT0402DRD0710KL
Thin Film Chip Resistors Automotive Grade 10kΩ 0.5% 25ppm/°C 0402; Resistance: 10kR; Max Power Dissipation: 63mW; Controlled Revision: R5 2026-09-16; project-local frozen symbol/footprint; Tolerance: 0.5%; Temperature Coefficient: 25ppm/°C; Width: 0.02inch; RoHS Compliant: Yes; Min Operating Temperature: -55°C; Height: 0.014inch; Case Code (Metric): 1005; Ratings: AEC-Q200; Case/Package: 0402; Max Operating Temperature: 155°C; Number of Terminations: 2; Features: Moisture Resistant; Packaging: Cut Tape; Length: 0.039inch; Series: AT; Resistor Type: Thin Film; Case Code (Imperial): 0402
footprint FP-AT0402-IPC_A
pins: 1, 2

## EMG_R5_R_KILL_PU
designator R_KILL_PU?, comment AT0402DRD0710KL
Thin Film Chip Resistors Automotive Grade 10kΩ 0.5% 25ppm/°C 0402; Resistance: 10kR; Max Power Dissipation: 63mW; Controlled Revision: R5 2026-09-16; project-local frozen symbol/footprint; Tolerance: 0.5%; Temperature Coefficient: 25ppm/°C; Width: 0.02inch; RoHS Compliant: Yes; Min Operating Temperature: -55°C; Height: 0.014inch; Case Code (Metric): 1005; Ratings: AEC-Q200; Case/Package: 0402; Max Operating Temperature: 155°C; Number of Terminations: 2; Features: Moisture Resistant; Packaging: Cut Tape; Length: 0.039inch; Series: AT; Resistor Type: Thin Film; Case Code (Imperial): 0402
footprint FP-AT0402-IPC_A
pins: 1, 2

## EMG_R5_R_LIM
designator R_LIM?, comment AC0402FR-073K48L
RES 3.48kΩ ±1% 0.063W 0402; Resistance: 3.48kR; Temperature Coefficient: 100ppm/°C; Max Power Dissipation: 63mW; Controlled Revision: R5 2026-09-16; project-local frozen symbol/footprint; Features: Moisture Resistant; Case/Package: 0402; Tolerance: 1%; Case Code (Metric): 1005; Series: AC; Ratings: AEC-Q200; Resistor Type: Thick Film; Width: 0.02inch; Packaging: Tape and Reel; RoHS Compliant: Yes; Number of Terminations: 2; Case Code (Imperial): 0402; Height: 0.015inch; Length: 0.039inch; Max Operating Temperature: 155°C; Min Operating Temperature: -55°C
footprint FP-AC0402-MFG
pins: 1, 2

## EMG_R5_R_MCU_BOOT0_PD
designator R_MCU_BOOT0_PD?, comment RT0402BRD0710KL  (value not drawn)
RES 10.0K OHM 1/16W .1% SMD 0402; Manufacturer: Yageo; Value: 10KΩ; Voltage Rating: 50V; Power Rating: 0.063W; Temperature Coefficient: 25 ppm/°C; Tolerance: 0.001; Controlled Revision: R5 2026-09-16; project-local frozen symbol/footprint; Height: 0.35mm; Ipc Land Pattern Name: RESC10050X30; Device Class L1: Passive Components; Mouser Description: Thin Film Resistors - SMD 10K ohm 0.1% 1/16W; ComponentLink2URL: http://www.yageo.com/documents/recent/PYu-RT_1-to-0.01_RoHS_L_9.pdf; Automotive: No; Series: RT; Package: RT0402; ComponentLink2Description: Datasheet; Footprint Url: http://www.yageo.com/exep/pages/download/literatures/PYu-R_Mount_10.pdf; Digikey Description: RES 10.0K OHM 1/16W .1% SMD 0402; Resistance: 10KΩ; Temperature Range High: +155°C; Device Class L3: Chip SMD Resistors; Manufacturer Part Number: RT0402BRD0710KL; Lead Free: Yes; Category: Res; Device Class L2: Resistors; RoHS: TRUE; Temperature Range Low: -55°C; Composition: Thin Film; Temperature: -55°C to +155°C; Octopart: https://octopart.com/rt0402brd0710kl-yageo-1181432
footprint FP-RT0402-MFG
pins: 1, 2

## EMG_R5_R_NRST
designator R_NRST?, comment RT0402BRD0710KL  (value not drawn)
RES 10.0K OHM 1/16W .1% SMD 0402; Manufacturer: Yageo; Value: 10KΩ; Voltage Rating: 50V; Power Rating: 0.063W; Temperature Coefficient: 25 ppm/°C; Tolerance: 0.001; Controlled Revision: R5 2026-09-16; project-local frozen symbol/footprint; Height: 0.35mm; Ipc Land Pattern Name: RESC10050X30; Device Class L1: Passive Components; Mouser Description: Thin Film Resistors - SMD 10K ohm 0.1% 1/16W; ComponentLink2URL: http://www.yageo.com/documents/recent/PYu-RT_1-to-0.01_RoHS_L_9.pdf; Automotive: No; Series: RT; Package: RT0402; ComponentLink2Description: Datasheet; Footprint Url: http://www.yageo.com/exep/pages/download/literatures/PYu-R_Mount_10.pdf; Digikey Description: RES 10.0K OHM 1/16W .1% SMD 0402; Resistance: 10KΩ; Temperature Range High: +155°C; Device Class L3: Chip SMD Resistors; Manufacturer Part Number: RT0402BRD0710KL; Lead Free: Yes; Category: Res; Device Class L2: Resistors; RoHS: TRUE; Temperature Range Low: -55°C; Composition: Thin Film; Temperature: -55°C to +155°C; Octopart: https://octopart.com/rt0402brd0710kl-yageo-1181432
footprint FP-RT0402-MFG
pins: 1, 2

## EMG_R5_R_PGOOD
designator R_PGOOD?, comment RC0402FR-0747KL
Manufacturer: Yageo / Phycomp; Controlled Revision: R5 2026-09-16; project-local frozen symbol/footprint; Part Number: RC0402FR-0747KL
footprint RESC1005X40X25ML05T10 (Chip Resistor, 2-Leads, Body 1.00x0.50mm, IPC Low Density)
pins: 1, 2
1 alternate drawing of the same symbol

## EMG_R5_R_ref
designator R_ref?, comment AC0402FR-7D100KL
AC0402 100KΩ 0.0625W 1.00%; Manufacturer: Yageo; Automotive Grade: Grade 0; Voltage Rating: 50V; Tolerance: 0.01; Controlled Revision: R5 2026-09-16; project-local frozen symbol/footprint; Resistance: 100KΩ; Automotive: Yes; Device Class L1: Passive Components; Temperature Range High: +155°C; ComponentLink2URL: http://www.yageo.com/documents/recent/PYu-AC_51_RoHS_L_6.pdf; Footprint Url: http://www.yageo.com/exep/pages/download/literatures/PYu-R_Mount_10.pdf; Power Rating: 0.0625W; RoHS: TRUE; Category: Res; Package: AC0402; Octopart: https://octopart.com/ac0402fr-7d100kl-yageo-91024821; Device Class L2: Resistors; Series: AC; Height: 0.37mm; ComponentLink2Description: Datasheet; Lead Free: Yes; Temperature Range Low: -55°C; Value: 100KΩ; Temperature: -55°C to +155°C; Ipc Land Pattern Name: RESC10050X32; Device Class L3: Chip SMD Resistors; Manufacturer Part Number: AC0402FR-7D100KL; Composition: Thick Film
footprint FP-AC0402-MFG
pins: 1, 2

## EMG_R5_R_SCL
designator R_SCL?, comment CRCW04024K70FKED
RES Thick Film, 4.7kΩ, 1%, 0.063W, 100ppm/°C, 0402; Voltage Rating (DC): 50V; Power Rating: 63mW; Resistance: 4.7kR; Controlled Revision: R5 2026-09-16; project-local frozen symbol/footprint; Termination: SMD/SMT; Military Standard: Not; Length: 1mm; Radiation Hardening: No; Max Operating Temperature: 155°C; Min Operating Temperature: -55°C; Package Quantity: 10; Width: 0.5mm; Case Code (Imperial): 0402; Number of Terminations: 2; Max Power Dissipation: 63mW; Tolerance: 1%; Features: Automotive AEC-Q200; Composition: Thick Film; Depth: 0.5mm; Mount: Surface Mount; Weight: 2.3E-05oz; Lead Free: Lead Free; Case/Package: 0402; Height: 0.35mm; Packaging: Tape and Reel; Temperature Coefficient: 100ppm/°C; Case Code (Metric): 1005; Voltage Rating: 50V; Contact Plating: Tin
footprint FP-CRCW0402-e3-IPC_B
pins: 1, 2

## EMG_R5_R_SDA
designator R_SDA?, comment CRCW04024K70FKED
RES Thick Film, 4.7kΩ, 1%, 0.063W, 100ppm/°C, 0402; Voltage Rating (DC): 50V; Power Rating: 63mW; Resistance: 4.7kR; Controlled Revision: R5 2026-09-16; project-local frozen symbol/footprint; Termination: SMD/SMT; Military Standard: Not; Length: 1mm; Radiation Hardening: No; Max Operating Temperature: 155°C; Min Operating Temperature: -55°C; Package Quantity: 10; Width: 0.5mm; Case Code (Imperial): 0402; Number of Terminations: 2; Max Power Dissipation: 63mW; Tolerance: 1%; Features: Automotive AEC-Q200; Composition: Thick Film; Depth: 0.5mm; Mount: Surface Mount; Weight: 2.3E-05oz; Lead Free: Lead Free; Case/Package: 0402; Height: 0.35mm; Packaging: Tape and Reel; Temperature Coefficient: 100ppm/°C; Case Code (Metric): 1005; Voltage Rating: 50V; Contact Plating: Tin
footprint FP-CRCW0402-e3-IPC_B
pins: 1, 2

## EMG_R5_R_SHDN_G
designator R_SHDN_G?, comment AT0402DRD0710KL
Thin Film Chip Resistors Automotive Grade 10kΩ 0.5% 25ppm/°C 0402; Resistance: 10kR; Max Power Dissipation: 63mW; Controlled Revision: R5 2026-09-16; project-local frozen symbol/footprint; Tolerance: 0.5%; Temperature Coefficient: 25ppm/°C; Width: 0.02inch; RoHS Compliant: Yes; Min Operating Temperature: -55°C; Height: 0.014inch; Case Code (Metric): 1005; Ratings: AEC-Q200; Case/Package: 0402; Max Operating Temperature: 155°C; Number of Terminations: 2; Features: Moisture Resistant; Packaging: Cut Tape; Length: 0.039inch; Series: AT; Resistor Type: Thin Film; Case Code (Imperial): 0402
footprint FP-AT0402-IPC_A
pins: 1, 2

## EMG_R5_R_SHDN_PD
designator R_SHDN_PD?, comment AC0402FR-7D100KL
AC0402 100KΩ 0.0625W 1.00%; Manufacturer: Yageo; Automotive Grade: Grade 0; Voltage Rating: 50V; Tolerance: 0.01; Controlled Revision: R5 2026-09-16; project-local frozen symbol/footprint; Resistance: 100KΩ; Automotive: Yes; Device Class L1: Passive Components; Temperature Range High: +155°C; ComponentLink2URL: http://www.yageo.com/documents/recent/PYu-AC_51_RoHS_L_6.pdf; Footprint Url: http://www.yageo.com/exep/pages/download/literatures/PYu-R_Mount_10.pdf; Power Rating: 0.0625W; RoHS: TRUE; Category: Res; Package: AC0402; Octopart: https://octopart.com/ac0402fr-7d100kl-yageo-91024821; Device Class L2: Resistors; Series: AC; Height: 0.37mm; ComponentLink2Description: Datasheet; Lead Free: Yes; Temperature Range Low: -55°C; Value: 100KΩ; Temperature: -55°C to +155°C; Ipc Land Pattern Name: RESC10050X32; Device Class L3: Chip SMD Resistors; Manufacturer Part Number: AC0402FR-7D100KL; Composition: Thick Film
footprint FP-AC0402-MFG
pins: 1, 2

## EMG_R5_R_SPI_CS
designator R_SPI_CS?, comment ERJ2RKF22R0X  (value not drawn)
22 Ohms Â±1% 0.1W, 1/10W Chip Resistor 0402 (1005 Metric) Automotive AEC-Q200 Thick Film; MF: Panasonic; Controlled Revision: R5 2026-09-16; project-local frozen symbol/footprint; MP: ERJ2RKF22R0X; Package: 1005-2 Panasonic; Value: *; Digi-Key_Part_Number: P22.0LTR-ND; Check_prices: https://www.snapeda.com/parts/ERJ2RKF22R0X/Panasonic/view-part/?ref=eda; SnapEDA_Link: https://www.snapeda.com/parts/ERJ2RKF22R0X/Panasonic/view-part/?ref=snap
footprint RES_ERJ2RKF22R0X
pins: 1, 2

## EMG_R5_R_SPI_MISO
designator R_SPI_MISO?, comment ERJ2RKF22R0X  (value not drawn)
22 Ohms Â±1% 0.1W, 1/10W Chip Resistor 0402 (1005 Metric) Automotive AEC-Q200 Thick Film; MF: Panasonic; Controlled Revision: R5 2026-09-16; project-local frozen symbol/footprint; MP: ERJ2RKF22R0X; Package: 1005-2 Panasonic; Value: *; Digi-Key_Part_Number: P22.0LTR-ND; Check_prices: https://www.snapeda.com/parts/ERJ2RKF22R0X/Panasonic/view-part/?ref=eda; SnapEDA_Link: https://www.snapeda.com/parts/ERJ2RKF22R0X/Panasonic/view-part/?ref=snap
footprint RES_ERJ2RKF22R0X
pins: 1, 2

## EMG_R5_R_SPI_MOSI
designator R_SPI_MOSI?, comment ERJ2RKF22R0X  (value not drawn)
22 Ohms Â±1% 0.1W, 1/10W Chip Resistor 0402 (1005 Metric) Automotive AEC-Q200 Thick Film; MF: Panasonic; Controlled Revision: R5 2026-09-16; project-local frozen symbol/footprint; MP: ERJ2RKF22R0X; Package: 1005-2 Panasonic; Value: *; Digi-Key_Part_Number: P22.0LTR-ND; Check_prices: https://www.snapeda.com/parts/ERJ2RKF22R0X/Panasonic/view-part/?ref=eda; SnapEDA_Link: https://www.snapeda.com/parts/ERJ2RKF22R0X/Panasonic/view-part/?ref=snap
footprint RES_ERJ2RKF22R0X
pins: 1, 2

## EMG_R5_R_SPI_SCK
designator R_SPI_SCK?, comment ERJ2RKF22R0X  (value not drawn)
22 Ohms Â±1% 0.1W, 1/10W Chip Resistor 0402 (1005 Metric) Automotive AEC-Q200 Thick Film; MF: Panasonic; Controlled Revision: R5 2026-09-16; project-local frozen symbol/footprint; MP: ERJ2RKF22R0X; Package: 1005-2 Panasonic; Value: *; Digi-Key_Part_Number: P22.0LTR-ND; Check_prices: https://www.snapeda.com/parts/ERJ2RKF22R0X/Panasonic/view-part/?ref=eda; SnapEDA_Link: https://www.snapeda.com/parts/ERJ2RKF22R0X/Panasonic/view-part/?ref=snap
footprint RES_ERJ2RKF22R0X
pins: 1, 2

## EMG_R5_R_TH_BAT
designator R_TH_BAT?, comment 103AT-2
Required remote cell-temperature NTC; manual off-board assembly; Manufacturer: SEMITEC Corporation; Resistance: 10 kohm at 25 C; Tolerance: +/-1% at 25 C; Beta B25/85: 3435 K +/-1%; Mounting_Location: Battery cell / off-board; Connection: Two insulated leads to R_TH_BAT pads: pad1 GND, pad2 BAT_TEMP; PCB_Auto_Assembly: Exclude - required manual off-board assembly item; Procurement_Quantity_Per_System: 1; Assembly PROTO_1_REMOTE_NTC: Required - manual remote assembly; Release Note: Only one connected NTC. Do not connect a second pack NTC to J_Li-Po pin2. Wire fit, insulation, cell attachment and strain relief require qualification.; Library Reference: EMG_R5_R_TH_BAT; Controlled Revision: Remote NTC 2026-09-16; project-local symbol and wire-termination model; Manufacturer Part Number: 103AT-2; Series: AT; Package: AT-2 resin-coated radial thermistor; body mounted on cell; Footprint: EMG_REMOTE_NTC_TERMINALS_2P; Assembly_Method: Manual; Population: Required; Datasheet: https://www.semitec-global.com/uploads/2022/01/P12-13-AT-Thermistor.pdf; Library Name: EMG_Controlled_R5.SchLib
footprint EMG_REMOTE_NTC_TERMINALS_2P
pins: 1, 2

## EMG_R5_R_TMR
designator R_TMR?, comment RC0402FR-0768K1L
Manufacturer: Yageo / Phycomp; Controlled Revision: R5 2026-09-16; project-local frozen symbol/footprint; Part Number: RC0402FR-0768K1L
footprint RESC1005X40X25ML05T10 (Chip Resistor, 2-Leads, Body 1.00x0.50mm, IPC Low Density)
pins: 1, 2
1 alternate drawing of the same symbol

## EMG_R5_R_TS_BOTTOM
designator R_TS_BOTTOM?, comment RC0402FR-0728KL
Manufacturer: Yageo; Controlled Revision: R5 2026-09-16; project-local frozen symbol/footprint; Part Number: RC0402FR-0728KL
footprint RESC1005X40X25NL05T10 (Chip Resistor, 2-Leads, Body 1.00x0.50mm, IPC Medium Density)
pins: 1, 2
1 alternate drawing of the same symbol

## EMG_R5_R_TS_SER
designator R_TS_SER?, comment AC0402FR-7D100KL
AC0402 100KΩ 0.0625W 1.00%; Manufacturer: Yageo; Automotive Grade: Grade 0; Voltage Rating: 50V; Tolerance: 0.01; Controlled Revision: R5 2026-09-16; project-local frozen symbol/footprint; Resistance: 100KΩ; Automotive: Yes; Device Class L1: Passive Components; Temperature Range High: +155°C; ComponentLink2URL: http://www.yageo.com/documents/recent/PYu-AC_51_RoHS_L_6.pdf; Footprint Url: http://www.yageo.com/exep/pages/download/literatures/PYu-R_Mount_10.pdf; Power Rating: 0.0625W; RoHS: TRUE; Category: Res; Package: AC0402; Octopart: https://octopart.com/ac0402fr-7d100kl-yageo-91024821; Device Class L2: Resistors; Series: AC; Height: 0.37mm; ComponentLink2Description: Datasheet; Lead Free: Yes; Temperature Range Low: -55°C; Value: 100KΩ; Temperature: -55°C to +155°C; Ipc Land Pattern Name: RESC10050X32; Device Class L3: Chip SMD Resistors; Manufacturer Part Number: AC0402FR-7D100KL; Composition: Thick Film
footprint FP-AC0402-MFG
pins: 1, 2

## EMG_R5_R_TS_TOP
designator R_TS_TOP?, comment RC0402FR0733K2L
Manufacturer: Yageo / Phycomp; Controlled Revision: R5 2026-09-16; project-local frozen symbol/footprint; Part Number: RC0402FR0733K2L
footprint RESC1005X40X25NL05T10 (Chip Resistor, 2-Leads, Body 1.00x0.50mm, IPC Medium Density)
pins: 1, 2
1 alternate drawing of the same symbol

## EMG_R5_R_VREF1
designator R_VREF?, comment ERA2AEB680X
Controlled Revision: R5 2026-09-16; project-local frozen symbol/footprint; Value: *; Package: None; MP: ERA2AEB680X; Price: None; Availability: Unavailable
footprint RES_ERA2AEB680X
pins: 1, 2

## EMG_R5_R_VREF2
designator R_VREF?, comment ERA2AEB680X
Controlled Revision: R5 2026-09-16; project-local frozen symbol/footprint; Value: *; Package: None; MP: ERA2AEB680X; Price: None; Availability: Unavailable
footprint RES_ERA2AEB680X
pins: 1, 2

## EMG_R5_R_VREF3
designator R_VREF?, comment ERA2AEB680X
Controlled Revision: R5 2026-09-16; project-local frozen symbol/footprint; Value: *; Package: None; MP: ERA2AEB680X; Price: None; Availability: Unavailable
footprint RES_ERA2AEB680X
pins: 1, 2

## EMG_R5_R_VREF4
designator R_VREF?, comment ERA2AEB680X
Controlled Revision: R5 2026-09-16; project-local frozen symbol/footprint; Value: *; Package: None; MP: ERA2AEB680X; Price: None; Availability: Unavailable
footprint RES_ERA2AEB680X
pins: 1, 2

## EMG_R5_R_VREF5
designator R_VREF?, comment ERA2AEB680X
Controlled Revision: R5 2026-09-16; project-local frozen symbol/footprint; Value: *; Package: None; MP: ERA2AEB680X; Price: None; Availability: Unavailable
footprint RES_ERA2AEB680X
pins: 1, 2

## EMG_R5_R_WIFI_BOOT_OVR
designator R_WIFI_BOOT_OVR?, comment 0402WGF1001TCE
1K Ohm 1/16W Thick Film Resistor 0402 Chip - Surface Mount; MF: Uni-Royal; Controlled Revision: R5 2026-09-16; project-local frozen symbol/footprint; SnapEDA_Link: https://www.snapeda.com/parts/0402WGF1001TCE/Uni-Royal/view-part/?ref=snap; Package: 0402-2 ROYAL; Value: *; MP: 0402WGF1001TCE; Check_prices: https://www.snapeda.com/parts/0402WGF1001TCE/Uni-Royal/view-part/?ref=eda
footprint RESC1005X40N
pins: 1, 2